# Altium schematic symbol library HB_Driver.SchLib: 16 symbols
Pins are listed as number, name and electrical type; pins without a type are passive.

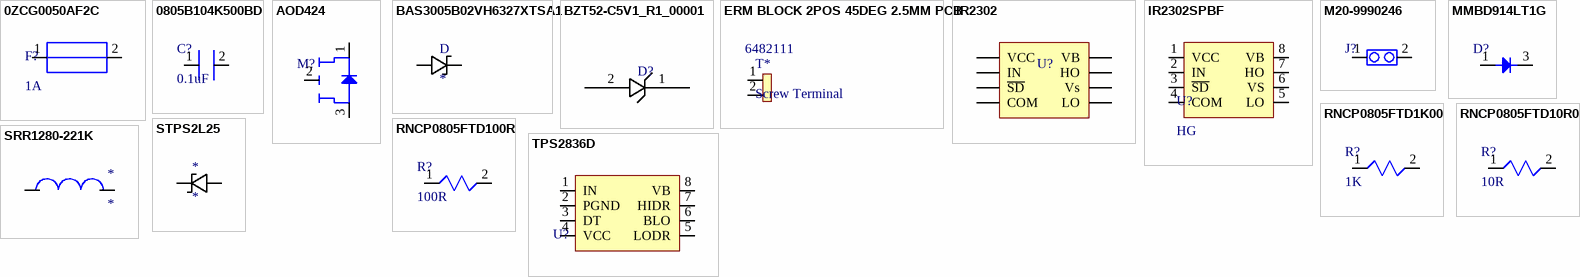
[diagram p0: symbols 0ZCG0050AF2C to TPS2836D]

## 0ZCG0050AF2C
designator F?, comment 1A
PTC Resettable Fuse 0.5A(hold) 1A(trip) 30VDC 100A 0.8W 0.15s 0.15Ohm SMD Solder Pad 1812 T/R; Manufacturer: Bel; Manufacturer Part Number: 0ZCG0050AF2C; Hold Current: 500mA; Supplier 1: Newark; RoHS: Yes; Category: PTC Resettable Fuses; Stock 1: 19101; Pricing 1: 1=0.14000, 10=0.12900, 25=0.12200, 50=0.11500, 100=0.10700, 250=0.09600 (USD); Mount: Surface Mount; Case/Package: 1812; Case Code (Metric): 4532; Case Code (Imperial): 1812; Contact Plating: Tin,Matte; Min Operating Temperature: -40°C; Max Operating Temperature: 85°C; Package Quantity: 1; Packaging: Tape and Reel; Max Current Rating: 100A; Trip Current: 1A; Time to Trip: 0.15s; Lead Free: Lead Free; RoHS Compliant: Yes; ComponentLink1URL: https://datasheet.ciiva.com/18550/0zcg-18550748.pdf?src-supplier=Digi-Key; ComponentLink1Description: https://datasheet.ciiva.com/18550/0zcg-18550748.pdf?src-supplier=Digi-Key; ComponentLink2URL: https://datasheet.ciiva.com/18550/0zcg-18550749.pdf?src-supplier=Digi-Key; ComponentLink2Description: https://datasheet.ciiva.com/18550/0zcg-18550749.pdf?src-supplier=Digi-Key; ComponentLink3URL: https://datasheet.ciiva.com/18550/0zcg-18550750.pdf?src-supplier=Digi-Key; ComponentLink3Description: https://datasheet.ciiva.com/18550/0zcg-18550750.pdf?src-supplier=Digi-Key; Supplier Part Number 1: 48AC8390
footprint 0ZCG0050AF2C (FUSE-0.5AH-1AT)
pins: 1 +, 2 -

## 0805B104K500BD
designator C?, comment 0.1uF
0.1 uF 50V Cap
footprint 0805B104K500BD (0.1uF_CER_CAP)
pins: 1 +, 2

## AOD424
designator M?, comment NMOS  (value not drawn)
MOSFET N-CH 20V 18A TO252; Manufacturer: Alpha & Omega Semiconductor; Manufacturer Part Number: AOD424; Rds On Max: 4.4mR; Input Capacitance: 4.63nF; Continuous Drain Current (ID): 45A; Max Power Dissipation: 2.5W; Number of Outputs: 2; Rise Time: 220ns; Output Current: 200mA; Min Supply Voltage: 5V; Nominal Supply Current: 1.6mA; Output Voltage: 620V; Propagation Delay: 950ns; Max Output Current: 350mA; Fall Time: 80ns; Turn-Off Delay Time: 70ns; Power Dissipation: 625mW; Min Output Voltage: 10V; Supplier 1: Digi-Key; RoHS: Yes; Category: Transistors; Stock 1: 1803; Pricing 1: 1=0.98000, 10=0.86400, 100=0.66240, 500=0.52360, 1000=0.41888 (USD); Mount: Surface Mount; Case/Package: TO-252-3; Min Operating Temperature: -55°C; Max Operating Temperature: 175°C; Packaging: Tape and Reel; Drain to Source Voltage (Vdss): 20V; Series: -; RoHS Compliant: Yes; ComponentLink1URL: https://datasheet.ciiva.com/6384/aod424-6384722.pdf?src-supplier=Digi-Key; ComponentLink1Description: https://datasheet.ciiva.com/6384/aod424-6384722.pdf?src-supplier=Digi-Key; ComponentLink2URL: https://datasheet.ciiva.com/6384/aod424-6384725.pdf?src-supplier=Digi-Key; ComponentLink2Description: https://datasheet.ciiva.com/6384/aod424-6384725.pdf?src-supplier=Digi-Key; Supplier 2: Newark; Number of Pins: 8; Package Quantity: 950; Max Supply Voltage: 20V; Number of Drivers: 2; Turn-On Delay Time: 70ns; Max Supply Current: 1.6mA; Max Output Voltage: 20V; Termination: SMD/SMT; Length: 5mm; Width: 4mm; Height: 1.5mm; Radiation Hardening: No; Lead Free: Lead Free; REACH SVHC: No SVHC; ComponentLink3URL: https://datasheet.ciiva.com/1952/ir2302-1952914.pdf?src-supplier=Digi-Key; ComponentLink3Description: https://datasheet.ciiva.com/1952/ir2302-1952914.pdf?src-supplier=Digi-Key; ComponentLink4URL: https://datasheet.ciiva.com/15110/getdatasheetpartid-188955-15110020.pdf?src-supplier=Verical; ComponentLink4Description: https://datasheet.ciiva.com/15110/getdatasheetpartid-188955-15110020.pdf?src-supplier=Verical; ComponentLink5URL: https://datasheet.ciiva.com/1499/60025-1499718.pdf?src-supplier=Element14; ComponentLink5Description: https://datasheet.ciiva.com/1499/60025-1499718.pdf?src-supplier=Element14; Supplier Part Number 1: 785-1565-1-ND
footprint AOD424 (MOSFET N-CH 20V 18A/45A TO252)
pins: 1 D, 2 G, 3 S

## BAS3005B02VH6327XTSA1
designator D
30V, Vf 620 mV @ 500 mA, 25 µA @ 30 V, Fast Recovery =< 500ns, > 200mA
footprint BAS3005B02VH6327XTSA1
pins: 1, 2

## BZT52-C5V1_R1_00001
designator D?  (value not drawn)
BZT52-C5V1_R1_00001 / 5.1V Zener Diode
footprint BZT52-C5V1_R1_00001 (SODFL, 2-Leads, Body 1.60x3.75mm, IPC Medium Density)
pins: 1, 2

## ERM BLOCK 2POS 45DEG 2.5MM PCB
designator T*, comment Screw Terminal  Supplier Part Number 1: 6482111
Supplier 1: RSComponents
footprint ERM BLOCK 2POS 45DEG 2.5MM PCB
pins: 1 0, 2

## IR2302
designator U?  (value not drawn)
Manufacture Part Number: IR2302
footprint IR2302S (Synchronous_HG_Driver)
pins: 1 VCC, 2 IN, 3 ~{SD}, 4 COM, 5 LO, 6 Vs, 7 HO, 8 VB

## IR2302SPBF
designator U?, comment HG
Driver 600V 0.35A 2-OUT High and Low Side Half Brdg Inv/Non-Inv 8-Pin SOIC N Tube; Manufacturer: International Rectifier; Manufacturer Part Number: IR2302SPBF; Number of Outputs: 2; Rise Time: 220ns; Output Current: 200mA; Max Supply Voltage: 20V; Min Supply Voltage: 5V; Nominal Supply Current: 1.6mA; Max Power Dissipation: 625mW; Output Voltage: 620V; Propagation Delay: 950ns; Max Output Current: 350mA; Fall Time: 80ns; Turn-Off Delay Time: 70ns; Min Output Voltage: 10V; Supplier 1: Newark; RoHS: Yes; Category: MOSFETs; Mount: Surface Mount; Case/Package: SOIC; Number of Pins: 8; Min Operating Temperature: -40°C; Max Operating Temperature: 150°C; Packaging: Rail/Tube; Package Quantity: 950; Number of Drivers: 2; Turn-On Delay Time: 70ns; Max Supply Current: 1.6mA; Power Dissipation: 625mW; Series: -; Max Output Voltage: 20V; Termination: SMD/SMT; Length: 5mm; Width: 4mm; Height: 1.5mm; Radiation Hardening: No; Lead Free: Lead Free; RoHS Compliant: Yes; REACH SVHC: No SVHC; ComponentLink1URL: https://datasheet.ciiva.com/1952/ir2302-1952914.pdf?src-supplier=Digi-Key; ComponentLink1Description: https://datasheet.ciiva.com/1952/ir2302-1952914.pdf?src-supplier=Digi-Key; ComponentLink2URL: https://datasheet.ciiva.com/15110/getdatasheetpartid-188955-15110020.pdf?src-supplier=Verical; ComponentLink2Description: https://datasheet.ciiva.com/15110/getdatasheetpartid-188955-15110020.pdf?src-supplier=Verical; ComponentLink3URL: https://datasheet.ciiva.com/1499/60025-1499718.pdf?src-supplier=Element14; ComponentLink3Description: https://datasheet.ciiva.com/1499/60025-1499718.pdf?src-supplier=Element14; Supplier Part Number 1: 38K3128
footprint IR2302S (Synchronous_HG_Driver)
pins: 1 VCC, 2 IN, 3 ~{SD}, 4 COM, 5 LO, 6 VS, 7 HO, 8 VB

## M20-9990246
designator J?  (value not drawn)
2.54mm (0.1") Pitch SIL Vertical PC Tail Pin Header, 6.1mm mating pin height, tin, 2 contacts; Manufacturer: Harwin; Manufacturer Part Number: M20-9990246; Number of Contacts: 2; Current Rating: 3A; Contact Resistance: 30mR; Gender: Male; Insulation Resistance: 10GR; Voltage Rating (AC): 750V; Connector Type: Male Pin; Supplier 1: RSComponents; RoHS: Yes; Category: Headers and Wire Housings; Stock 1: 2060; Pricing 1: 10=0.09100, 100=0.08500 (USD); Mount: Through Hole; Case/Package: SIL; Contact Plating: Tin; Color: Black; Contact Material: Brass,Bronze; Housing Color: Black; Housing Material: Nylon; Min Operating Temperature: -40°C; Max Operating Temperature: 105°C; Number of Rows: 1; Termination: Solder; Package Quantity: 1000; Packaging: Bulk; Max Current Rating: 3A; Number of Positions: 2; Orientation: Straight; Series: M20; Contact Type: Male Pin; Length: 5.08mm; Pitch: 2.54mm; Contact Mating Length: 0.24inch; Depth: 2.54mm; Radiation Hardening: No; REACH SVHC: No SVHC; ComponentLink1URL: https://datasheet.ciiva.com/22660/1830818-22660571.pdf?src-supplier=Element14; ComponentLink1Description: https://datasheet.ciiva.com/22660/1830818-22660571.pdf?src-supplier=Element14; ComponentLink2URL: https://datasheet.ciiva.com/11745/0900766b81034e61-11745755.pdf?src-supplier=RSComponents; ComponentLink2Description: https://datasheet.ciiva.com/11745/0900766b81034e61-11745755.pdf?src-supplier=RSComponents; ComponentLink3URL: https://datasheet.ciiva.com/8046/315376-8046930.pdf?src-supplier=Element14; ComponentLink3Description: https://datasheet.ciiva.com/8046/315376-8046930.pdf?src-supplier=Element14; ComponentLink4URL: https://datasheet.ciiva.com/6833/m20-999-6833368.pdf?src-supplier=Digi-Key; ComponentLink4Description: https://datasheet.ciiva.com/6833/m20-999-6833368.pdf?src-supplier=Digi-Key; ComponentLink5URL: https://datasheet.ciiva.com/26852/getdatasheetpartid-384170-26852203.pdf?src-supplier=Verical; ComponentLink5Description: https://datasheet.ciiva.com/26852/getdatasheetpartid-384170-26852203.pdf?src-supplier=Verical; Supplier Part Number 1: 7457065
footprint M20-9990246 (1x2 PIN HEADER)
pins: 1 +, 2 -

## MMBD914LT1G
designator D?, comment 100V  (value not drawn)
VR=100V IF=200mA 4.0pF Trr=4ns P=225W; Manufacturer: ON Semiconductor; Manufacturer Part Number: MMBD914LT1G; Recovery Time: 4ns; Forward Current: 200mA; Max Surge Current: 500mA; Forward Voltage: 1V; Max Reverse Leakage Current: 5uA; Power Dissipation: 300mW; Element Configuration: Single; Polarity: Standard; Capacitance: 4pF; Supplier 1: Newark; RoHS: Yes; Category: Rectifier Diodes; Stock 1: 24000; Pricing 1: 1=0.03600, 3000=0.03100, 6000=0.02500, 12000=0.02000 (USD); Case/Package: SOT-23-3; Number of Pins: 3; Contact Plating: Tin,Matte; Min Operating Temperature: -55°C; Max Operating Temperature: 150°C; Package Quantity: 1; Packaging: Tape and Reel; Average Rectified Current: 200mA; Reverse Recovery Time: 4ns; Max Repetitive Reverse Voltage (Vrrm): 100V; Peak Non-Repetitive Surge Current: 500mA; Max Reverse Voltage (DC): 100V; Series: -; Reverse Recovery Time-Max: 4ns; Max Reverse Current: 5uA; Max Forward Surge Current (Ifsm): 500mA; Voltage Rating (DC): 100V; Current Rating: 200mA; Output Current: 200mA; Diode Capacitance-Max: 4pF; Length: 0.119inch; Width: 0.055inch; Height: 0.04inch; Radiation Hardening: No; Lead Free: Lead Free; Halogen Free: Halogen Free; RoHS Compliant: Yes; REACH SVHC: No SVHC; ComponentLink1URL: https://datasheet.ciiva.com/1243/mmbd914lt1-d-1243184.pdf?src-supplier=Newark; ComponentLink1Description: https://datasheet.ciiva.com/1243/mmbd914lt1-d-1243184.pdf?src-supplier=Newark; ComponentLink2URL: https://datasheet.ciiva.com/1181/mmbd914lt1-d-1181204.pdf?src-supplier=Element14; ComponentLink2Description: https://datasheet.ciiva.com/1181/mmbd914lt1-d-1181204.pdf?src-supplier=Element14; ComponentLink3URL: https://datasheet.ciiva.com/1181/mmbd914lt1-d-1181205.pdf?src-supplier=Element14; ComponentLink3Description: https://datasheet.ciiva.com/1181/mmbd914lt1-d-1181205.pdf?src-supplier=Element14; ComponentLink4URL: https://datasheet.ciiva.com/22663/1571903-22663685.pdf?src-supplier=Element14; ComponentLink4Description: https://datasheet.ciiva.com/22663/1571903-22663685.pdf?src-supplier=Element14; ComponentLink5URL: https://datasheet.ciiva.com/16209/mmbd914lt1-d-16209147.pdf?src-supplier=Future+Electronics; ComponentLink5Description: https://datasheet.ciiva.com/16209/mmbd914lt1-d-16209147.pdf?src-supplier=Future+Electronics; ComponentLink6URL: https://datasheet.ciiva.com/915/mmbd914lt1-d-915328.pdf?src-supplier=Digi-Key; ComponentLink6Description: https://datasheet.ciiva.com/915/mmbd914lt1-d-915328.pdf?src-supplier=Digi-Key; ComponentLink7URL: https://datasheet.ciiva.com/915/mmbd914lt1-d-915329.pdf?src-supplier=Digi-Key; ComponentLink7Description: https://datasheet.ciiva.com/915/mmbd914lt1-d-915329.pdf?src-supplier=Digi-Key; Supplier Part Number 1: 94W8990
footprint MMBD914LT1G (D-100V-200mA)
pins: 1 AN, 3 CA

## RNCP0805FTD1K00
designator R?, comment 1K
Res Thin Film 0805 1K Ohm 1% 0.25W(1/4W) ±100ppm/C Sulfur Resistant Pad SMD T/R; Manufacturer: Stackpole Electronics; Manufacturer Part Number: RNCP0805FTD1K00; Resistance: 1kR; Power Rating: 250mW; Temperature Coefficient: 100ppm/°C; Supplier 1: Digi-Key; RoHS: Yes; Category: Chip SMD Resistors; Stock 1: 41120; Pricing 1: 1=0.10000, 10=0.07300, 100=0.02970, 1000=0.01336, 2500=0.01159 (USD); Mount: Surface Mount; Case/Package: 0805; Case Code (Metric): 2012; Case Code (Imperial): 0805; Size Code: 0805; Min Operating Temperature: -55°C; Max Operating Temperature: 155°C; Tolerance: 1%; Packaging: Tape and Reel; Resistor Type: Thin Film; Number of Terminations: 2; Max Power Dissipation: 250mW; Features: Moisture Resistant,Anti-Sulfur; Series: RNCP; Length: 0.079inch; Width: 0.049inch; Height: 0.024inch; Lead Free: Lead Free; RoHS Compliant: Yes; ComponentLink1URL: http://www.seielect.com/Catalog/SEI-rncp.pdf?src-supplier=Future+Electronics; ComponentLink1Description: http://www.seielect.com/Catalog/SEI-rncp.pdf?src-supplier=Future+Electronics; ComponentLink2URL: https://www.seielect.com/Catalog/SEI-rncp.pdf?src-supplier=Digi-Key; ComponentLink2Description: https://www.seielect.com/Catalog/SEI-rncp.pdf?src-supplier=Digi-Key; ComponentLink3URL: https://www.seielect.com/catalog/SEI-Packaging.pdf?src-supplier=Digi-Key; ComponentLink3Description: https://www.seielect.com/catalog/SEI-Packaging.pdf?src-supplier=Digi-Key; Supplier Part Number 1: RNCP0805FTD1K00CT-ND
footprint RNCP0805FTD10R0 (RES 10 OHM 1% 1/4W 0805)
pins: 1 +, 2 -

## RNCP0805FTD10R0
designator R?, comment 10R
RES 10 OHM 1% 1/4W 0805; Manufacturer: Stackpole Electronics; Manufacturer Part Number: RNCP0805FTD10R0; Max Power Dissipation: 250mW; Temperature Coefficient: 100ppm/°C; Supplier 1: Avnet; RoHS: Yes; Category: Chip SMD Resistors; Stock 1: 65000; Pricing 1: 5000=0.00682, 10000=0.00672, 20000=0.00653, 30000=0.00638, 40000=0.00614, 50000=0.00600, 500000=0.00586 (USD); Mount: Surface Mount; Case/Package: 0805; Case Code (Metric): 2012; Case Code (Imperial): 0805; Min Operating Temperature: -55°C; Max Operating Temperature: 155°C; Resistance: 10R; Tolerance: 1%; Packaging: Tape and Reel; Resistor Type: Thin Film; Number of Terminations: 2; Features: Moisture Resistant,Anti-Sulfur; Series: RNCP; Length: 0.079inch; Width: 0.049inch; Height: 0.024inch; RoHS Compliant: Yes; ComponentLink1URL: https://www.seielect.com/catalog/sei-rncp.pdf?src-supplier=Digi-Key; ComponentLink1Description: https://www.seielect.com/catalog/sei-rncp.pdf?src-supplier=Digi-Key; Supplier Part Number 1: RNCP0805FTD10R0
footprint RNCP0805FTD10R0 (RES 10 OHM 1% 1/4W 0805)
pins: 1 +, 2 -

## RNCP0805FTD100R
designator R?, comment 100R
Res Thin Film 0805 100 Ohm 1% 0.25W(1/4W) ±100ppm/C Sulfur Resistant Pad SMD T/R; Manufacturer: Stackpole Electronics; Manufacturer Part Number: RNCP0805FTD100R; Max Power Dissipation: 250mW; Temperature Coefficient: 100ppm/°C; Supplier 1: Arrow Electronics; RoHS: Yes; Category: Chip SMD Resistors; Stock 1: 25000; Pricing 1: 5000=0.01030, 10000=0.01020, 20000=0.00860, 25000=0.00850, 50000=0.00840, 100000=0.00830 (USD); Mount: Surface Mount; Case/Package: 0805; Case Code (Metric): 2012; Case Code (Imperial): 0805; Min Operating Temperature: -55°C; Max Operating Temperature: 155°C; Resistance: 100R; Tolerance: 1%; Packaging: Tape and Reel; Resistor Type: Thin Film; Number of Terminations: 2; Features: Moisture Resistant,Anti-Sulfur; Series: RNCP; Length: 0.079inch; Width: 0.049inch; Height: 0.024inch; Lead Free: Lead Free; RoHS Compliant: Yes; ComponentLink1URL: http://www.seielect.com/Catalog/SEI-rncp.pdf?src-supplier=Digi-Key; ComponentLink1Description: http://www.seielect.com/Catalog/SEI-rncp.pdf?src-supplier=Digi-Key; ComponentLink2URL: https://www.seielect.com/catalog/SEI-Packaging.pdf?src-supplier=Digi-Key; ComponentLink2Description: https://www.seielect.com/catalog/SEI-Packaging.pdf?src-supplier=Digi-Key; Supplier Part Number 1: RNCP0805FTD100R
footprint RNCP0805FTD10R0 (RES 10 OHM 1% 1/4W 0805)
pins: 1 +, 2 -

## SRR1280-221K
designator *
footprint SRR1280-221K (Precision Wire Wound Inductor, 2-Leads, Body 12.50x12.50mm, IPC Medium Density)
pins: 1, 2

## STPS2L25
designator *
footprint STPS2L25 (SMA Flat Notch  IPC Medium Density)
pins: 1, 2

## TPS2836D
designator U?  (value not drawn)
2.4-A, 28-V half bridge gate driver with TTL inputs and enable for non-inverting synchronous buck 8-SOIC -40 to 125; Manufacturer: Texas Instruments; Manufacturer Part Number: TPS2836D; Rise Time: 60ns; Propagation Delay: 95ns; Max Supply Voltage: 15V; Max Output Current: 3.5A; Min Supply Voltage: 4.5V; Number of Outputs: 2; Max Power Dissipation: 600mW; Output Current: 2.4A; Nominal Supply Current: 3mA; Fall Time: 50ns; Operating Supply Voltage: 6.5V; Output Voltage: 11.5V; Supplier 1: Arrow Electronics; RoHS: Yes; Category: Gate Drivers; Stock 1: 22; Pricing 1: 1=3.22100, 10=2.87200, 25=2.69100, 100=2.31200, 225=2.17500, 450=1.92800, 1125=1.67500 (USD); Mount: Surface Mount; Case/Package: SOIC; Number of Pins: 8; Weight: 0.002677oz; Min Operating Temperature: -40°C; Max Operating Temperature: 125°C; Packaging: Rail/Tube; Package Quantity: 75; Number of Drivers: 2; Power Dissipation: 600mW; Turn-On Delay Time: 95ns; Number of Channels: 2; Series: -; Supply Current: 3mA; Termination: SMD/SMT; Length: 4.9mm; Width: 3.91mm; Height: 1.58mm; Radiation Hardening: No; Lead Free: Lead Free; RoHS Compliant: Yes; REACH SVHC: No SVHC; ComponentLink1URL: https://datasheet.ciiva.com/5702/1789003-5702350.pdf?src-supplier=Farnell; ComponentLink1Description: https://datasheet.ciiva.com/5702/1789003-5702350.pdf?src-supplier=Farnell; ComponentLink2URL: https://datasheet.ciiva.com/1950/tps2836-1950325.pdf?src-supplier=Digi-Key; ComponentLink2Description: https://datasheet.ciiva.com/1950/tps2836-1950325.pdf?src-supplier=Digi-Key; ComponentLink3URL: https://datasheet.ciiva.com/3226/tps2837-3226198.pdf?src-supplier=Avnet; ComponentLink3Description: https://datasheet.ciiva.com/3226/tps2837-3226198.pdf?src-supplier=Avnet; ComponentLink4URL: https://datasheet.ciiva.com/15222/getdatasheetpartid-172835-15222854.pdf?src-supplier=Verical; ComponentLink4Description: https://datasheet.ciiva.com/15222/getdatasheetpartid-172835-15222854.pdf?src-supplier=Verical; Supplier Part Number 1: TPS2836D
footprint TPS2836D (SYN-MOS-DRI)
pins: 1 IN, 2 PGND, 3 DT, 4 VCC, 5 LODR, 6 BLO, 7 HIDR, 8 VB